# Altium footprint library AltiumDesigner.PcbLib: 151 footprints (part 10 of 10)
Each footprint in its own frame and in the unit in brackets; x right, y up, seen from the top. Pads: shape width x height; smd on the part's side, far side on the other; paste and mask are expansions set on the pad; w line width, h text height; cw(c..) or ccw(c..) is an arc to the next point about the centre after c.
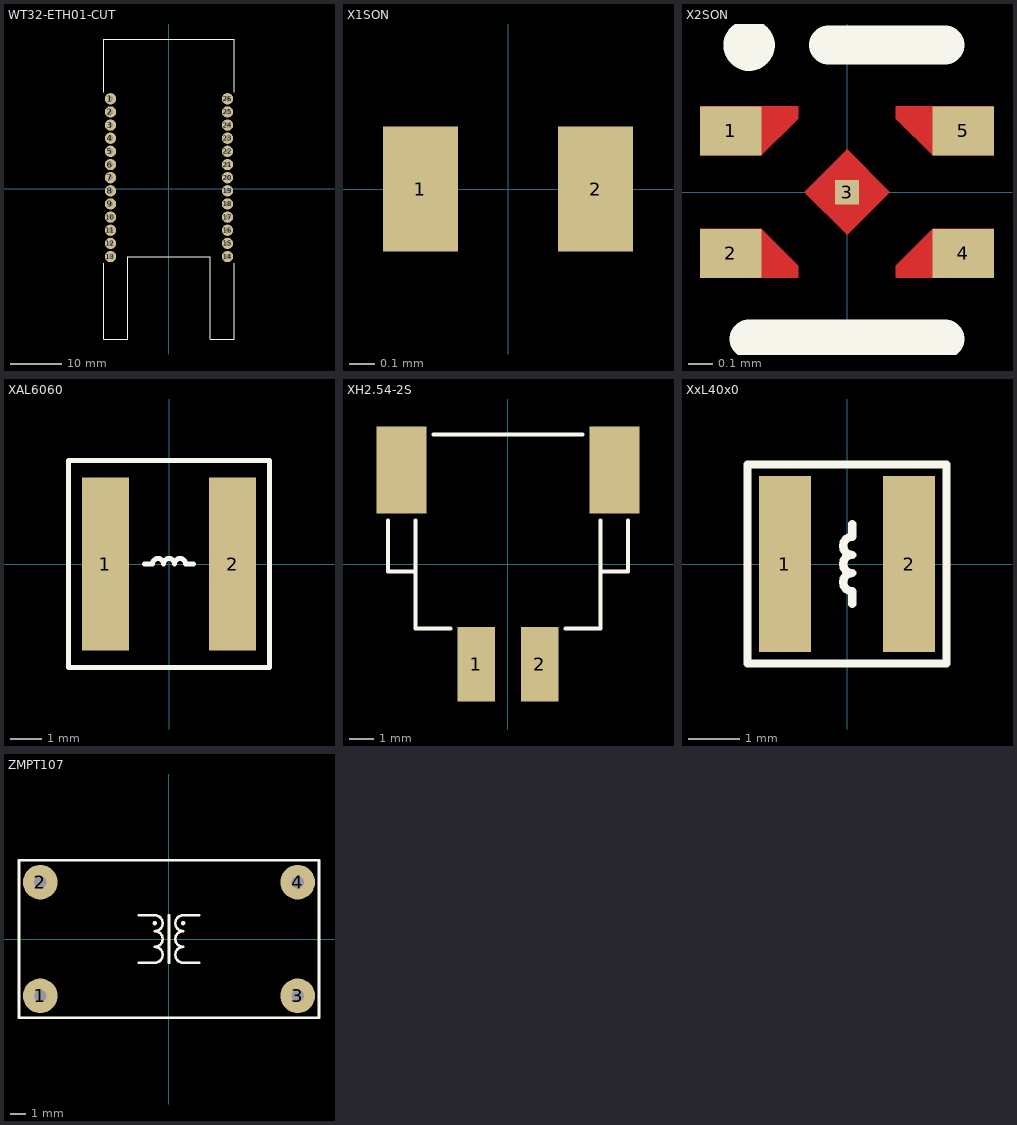
[diagram p9: the footprints below, top view; thin cyan lines are the x and y axes]

## WT32-ETH01-CUT [mm]
pads (26):
  round 2.2 hole 1: 1(-11.35,17.5) 2(-11.35,14.95) 3(-11.35,12.4) 4(-11.35,9.85) 5(-11.35,7.3) 6(-11.35,4.75) 7(-11.35,2.2) 8(-11.35,-0.35) 9(-11.35,-2.9) 10(-11.35,-5.45) 11(-11.35,-8) 12(-11.35,-10.55) 13(-11.35,-13.1) 14(11.35,-13.1) 15(11.35,-10.55) 16(11.35,-8) 17(11.35,-5.45) 18(11.35,-2.9) 19(11.35,-0.35) 20(11.35,2.2) 21(11.35,4.75) 22(11.35,7.3) 23(11.35,9.85) 24(11.35,12.4) 25(11.35,14.95) 26(11.35,17.5)
Top Overlay:
  lines w0.16: -12.65,-14.375 -12.65,-29.1 -8,-29.1 -8,-13.1 8,-13.1 8,-29.1 12.65,-29.1 12.65,-14.375 ; -12.65,18.75 -12.65,29.1 12.65,29.1 12.65,18.75

## X1SON [mm]
pads (2):
  rect 0.3x0.5 smd: 1(-0.35,0) 2(0.35,0)

## X2SON [mm]
pads (5):
  rect 0.25x0.2 smd paste+0 mask+0: 1(-0.475,0.25) 2(-0.475,-0.25) 4(0.475,-0.25) 5(0.475,0.25)
  rect 0.1x0.1 smd paste-1 mask+0: 3(0,0)
Top Layer:
  region: -0.6,-0.15 -0.6,-0.35 -0.2,-0.35 -0.2,-0.3 -0.35,-0.15
  region: 0.6,-0.15 0.6,-0.35 0.2,-0.35 0.2,-0.3 0.35,-0.15
  region: -0.175,0 0,-0.175 0.175,0 0,0.175
  region: -0.6,0.15 -0.6,0.35 -0.2,0.35 -0.2,0.3 -0.35,0.15
  region: 0.6,0.15 0.6,0.35 0.2,0.35 0.2,0.3 0.35,0.15
Top Overlay:
  circle w0.16: c-0.4,0.6 r0.025
  lines w0.16: -0.4,-0.6 0.4,-0.6 ; -0.075,0.6 0.4,0.6
Top Paste:
  rectangle: -0.6,0.15 -0.35,0.35
  rectangle: -0.6,-0.35 -0.35,-0.15
  rectangle: 0.35,-0.35 0.6,-0.15
  rectangle: 0.35,0.15 0.6,0.35
  region: 0,0.15 -0.15,0 0,-0.15 0.15,0

## XAL6060 [mm] "Coilcraft XxL60x0"
pads (2):
  rect 1.5x5.5 smd: 1(-2.025,0) 2(2.025,0)
Top Overlay:
  lines w0.16: -0.775,0 -0.525,0 cw(c-0.35,0) -0.175,0 cw(c0,0) 0.175,0 cw(c0.35,0) 0.525,0 0.775,0 ; -3.2,-3.3 -3.2,3.3 3.2,3.3 3.2,-3.3 -3.2,-3.3

## XH2.54-2S [mm] "Signal connector"
pads (4):
  rect 1.5x3 smd: 1(-1.275,-4.025) 2(1.275,-4.025)
  rect 2x3.5 smd: ""(-4.275,3.775) ""(4.275,3.775)
Top Overlay:
  lines w0.16: -4.825,1.75 -4.825,-0.3 -3.725,-0.3 ; -3.725,1.75 -3.725,-2.6 -2.3,-2.6 ; -3,5.2 3,5.2 ; 2.3,-2.6 3.725,-2.6 3.725,1.75 ; 3.725,-0.3 4.825,-0.3 4.825,1.75

## XxL40x0 [mm] "Coilcraft XxL40x0"
pads (2):
  rect 1x3.4 smd: 1(-1.2,0) 2(1.2,0)
Top Overlay:
  lines w0.16: 0.1,-0.775 0.1,-0.525 cw(c0.1,-0.35) 0.1,-0.175 cw(c0.1,0) 0.1,0.175 cw(c0.1,0.35) 0.1,0.525 0.1,0.775 ; -1.925,-1.925 1.925,-1.925 1.925,1.925 -1.925,1.925 -1.925,-1.925

## ZMPT107 [mm]
pads (4):
  round 2.2 hole 0.8: 1(-8.15,-3.6) 2(-8.15,3.6) 3(8.15,-3.6) 4(8.15,3.6)
Top Overlay:
  circle w0.16: c-0.9,1 r0.05
  circle w0.16: c0.9,1 r0.05
  lines w0.16: -1.9,-1.5 -0.9,-1.5 ccw(c-0.9,-1) -0.9,-0.5 ccw(c-0.9,0) -0.9,0.5 ccw(c-0.9,1) -0.9,1.5 -1.9,1.5 ; 0,-1.5 0,1.5 ; 1.9,-1.5 0.9,-1.5 cw(c0.9,-1) 0.9,-0.5 cw(c0.9,0) 0.9,0.5 cw(c0.9,1) 0.9,1.5 1.9,1.5 ; -9.5,-5 9.5,-5 9.5,5 -9.5,5 -9.5,-5